# EAGLE library part MICROSDDEVICE (library MicroSDFootprint)
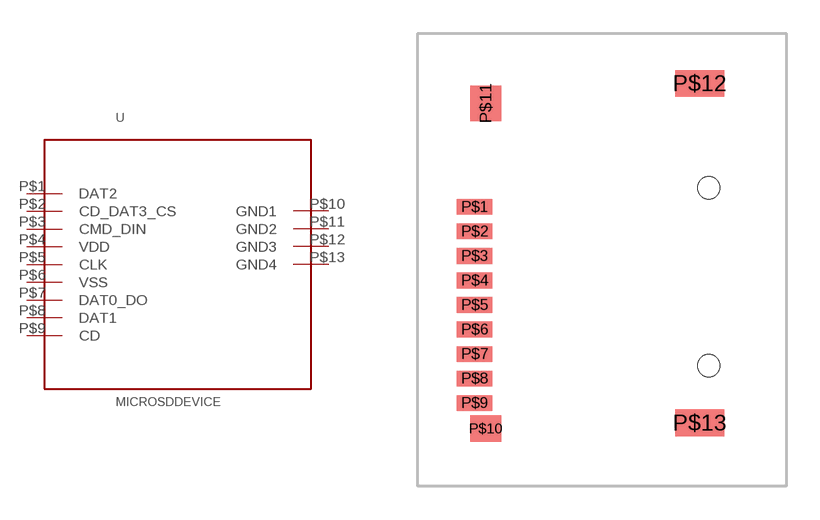
[diagram p0: symbol with the pads of MICROSD; footprint MICROSD]

Designator prefix -

## MICROSDDEVICE  [MICROSD]
P$1  DAT2
P$2  CD_DAT3_CS
P$3  CMD_DIN
P$4  VDD
P$5  CLK
P$6  VSS
P$7  DAT0_DO
P$8  DAT1
P$9  CD
P$10  GND1
P$11  GND2
P$12  GND3
P$13  GND4

## Footprint MICROSD (pad centres in mm)
smd 1.6 x 0.7: P$1 -3.81,1.1; P$2 -3.81,0; P$3 -3.81,-1.1; P$4 -3.81,-2.2; P$5 -3.81,-3.3; P$6 -3.81,-4.4; P$7 -3.81,-5.5; P$8 -3.81,-6.6; P$9 -3.81,-7.7
smd 1.4 x 1.2: P$10 -3.31,-8.85
smd 1.4 x 1.6: P$11 -3.31,5.75
smd 2.2 x 1.2: P$12 6.29,6.65; P$13 6.29,-8.59
hole 1 at 6.69,1.95
hole 1 at 6.69,-6.03